# Altium footprint library PCB - OPTOISOLATOR - EVERLIGHT SMD-6.PcbLib: 1 footprints
Each footprint in its own frame and in the unit in brackets; x right, y up, seen from the top. Pads: shape width x height; smd on the part's side, far side on the other; paste and mask are expansions set on the pad; w line width, h text height; cw(c..) or ccw(c..) is an arc to the next point about the centre after c.
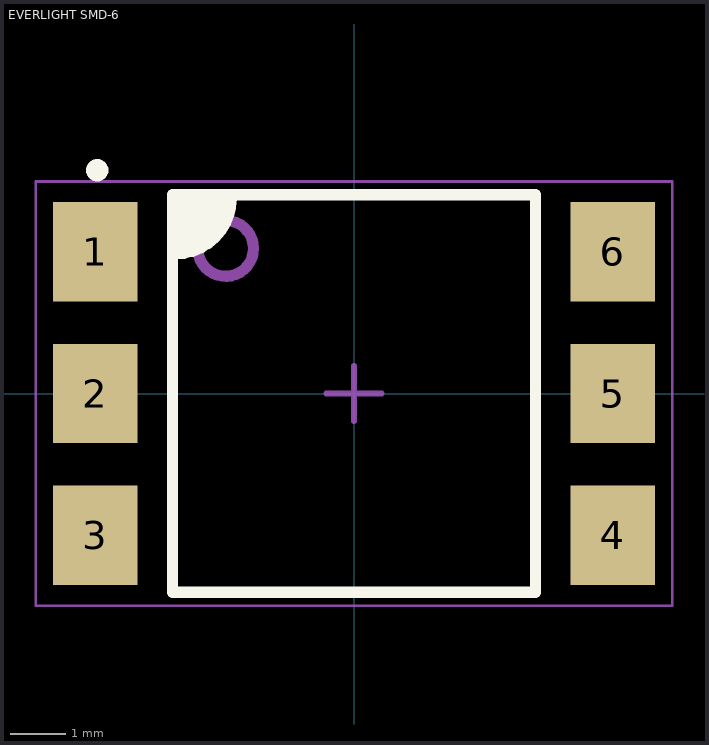
[diagram p0: the footprint, top view; thin cyan lines are the x and y axes]

## EVERLIGHT SMD-6 [mm] "Logic Output Optoisolator 1MHz Open Collector 5000Vrms 1 Channel  CMTI, 2.54mm Pitch, 6.5x7.12mm Body, 6-SMD Package"
height 3.9
pads (6):
  rect 1.52x1.78 smd: 1(-4.635,2.54) 2(-4.635,0) 3(-4.635,-2.54) 4(4.635,-2.54) 5(4.635,0) 6(4.635,2.54)
Top Overlay:
  circle w0.2: c-4.6,4 r0.1
  region: -3.2,3.5 -3.2,2.5 -3.102,2.5 -2.908,2.538 -2.726,2.614 -2.563,2.723 -2.423,2.863 -2.314,3.026 -2.238,3.208 -2.2,3.402 -2.2,3.5
  lines w0.2: -3.2,2.5 ccw(c-3.2,3.5) -2.2,3.5 ; -3.25,-3.56 -3.25,3.56 0,3.56 3.25,3.56 3.25,-3.56 ; -3.25,-3.56 3.25,-3.56 ; -3.25,-3.56 0,-3.56 3.25,-3.56
Mechanical 13:
  circle w0.2: c-2.3,2.6 r0.5
  lines w0.1: 3.25,3.56 3.25,-3.56 -3.25,-3.56 -3.25,3.56 3.25,3.56 ; 3.25,3.56 3.25,3.56
Mechanical 15 (Mech15):
  lines w0.05: -5.7,-3.8 5.7,-3.8 5.7,3.8 -5.7,3.8 -5.7,-3.8
  lines w0.1: -0.5,0 0,0 ; 0,-0.5 0,0 ; 0,0.5 0,0 ; 0.5,0 0,0
3D body "Everlight - SMD-6 v2.step": height 4.6, standoff 0, extent -5.15,-3.56 5.15,3.56